# Altium footprint library rcl@1.PCBLIB: 487 footprints (part 23 of 31)
Each footprint in its own frame and in the unit in brackets; x right, y up, seen from the top. Pads: shape width x height; smd on the part's side, far side on the other; paste and mask are expansions set on the pad; w line width, h text height; cw(c..) or ccw(c..) is an arc to the next point about the centre after c.
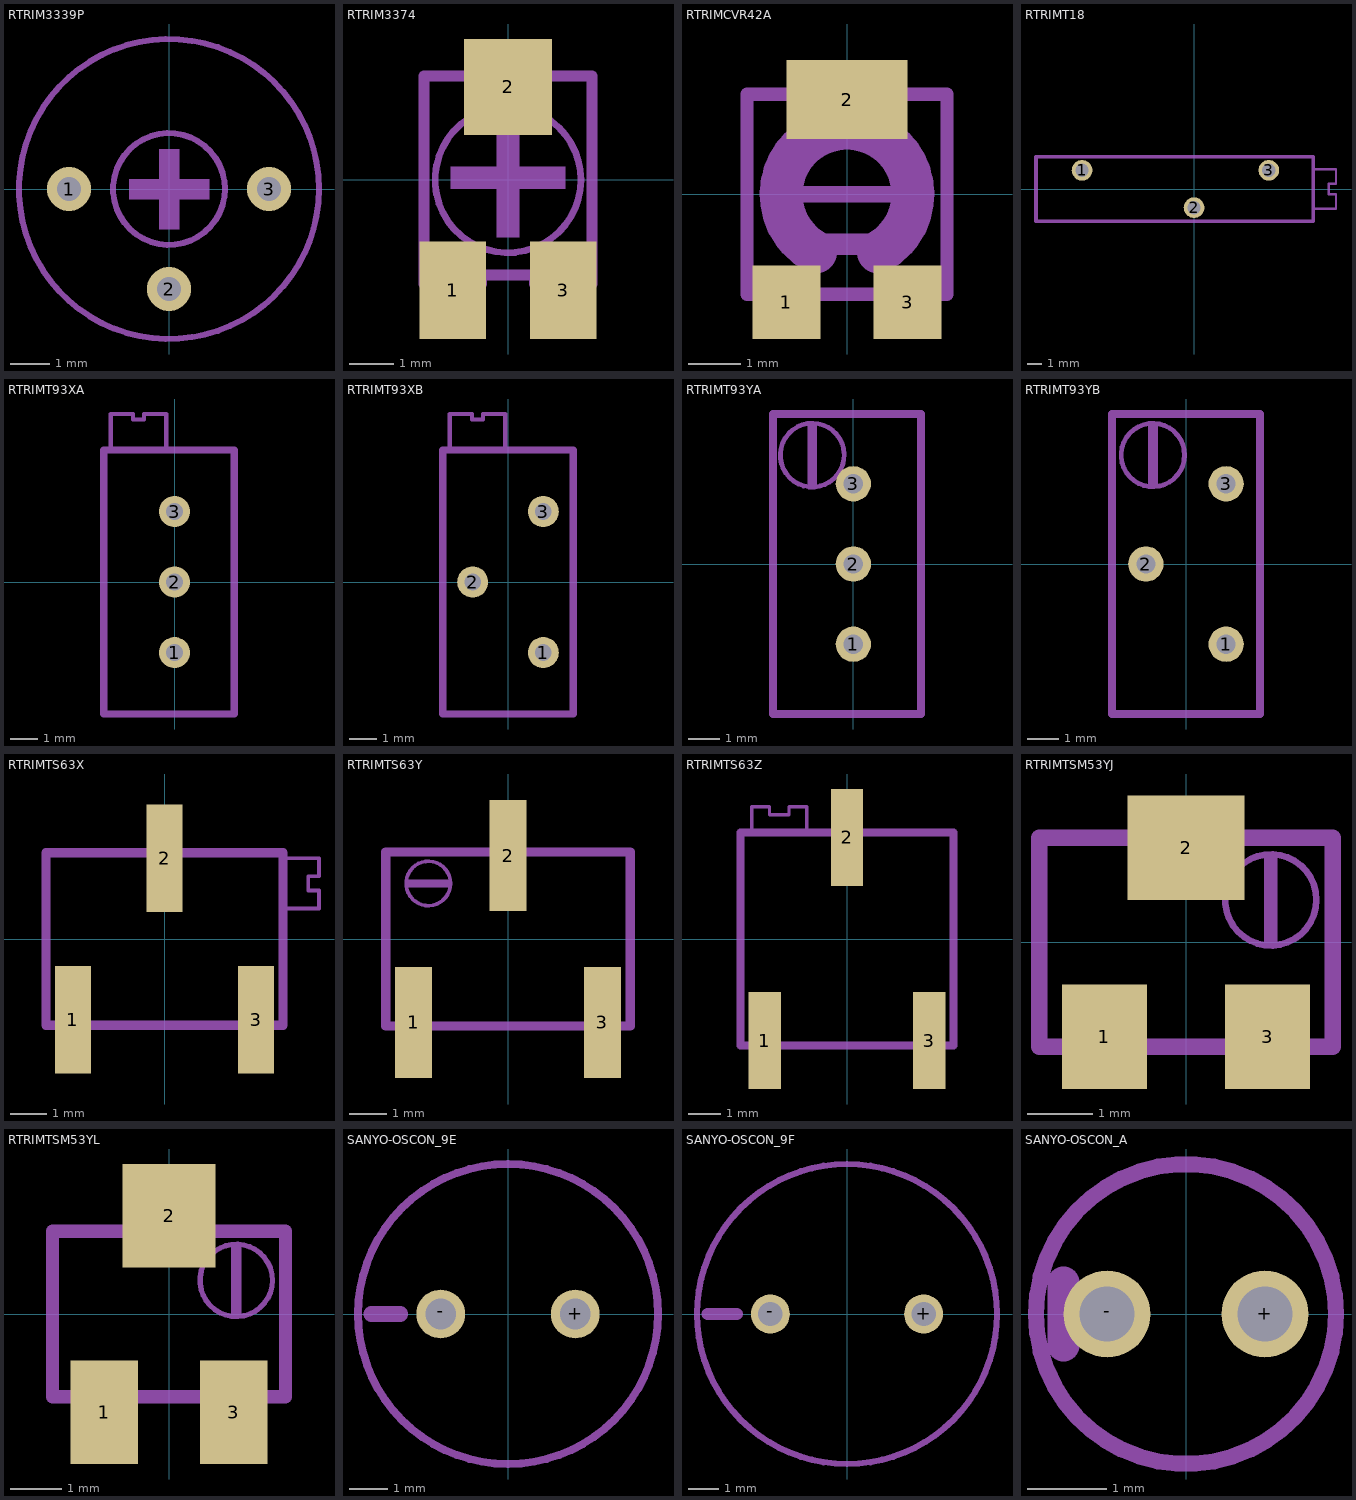
[diagram p22: the footprints below, top view; thin cyan lines are the x and y axes]

## RTRIM3339P [mil]
pads (3):
  round 44 hole 24: 1(-100,0) 2(0,-100) 3(100,0)
tPlace:
  circle w6: c0,0 r150
  circle w6: c0,0 r55.9
  region: -40,-10 -40,10 40,10 40,-10
  region: -10,-40 -10,40 10,40 10,-40

## RTRIM3374 [mil]
pads (3):
  rect 59.06x86.61 smd: 1(-49.21,-98.43) 3(49.21,-98.43)
  rect 77.95x85.43 smd: 2(0,82.68)
tDocu:
  circle w6: c0,0 r64.96
  region: -9.84,-51.18 -9.84,51.18 9.84,51.18 9.84,-51.18
  region: -51.18,-7.87 -51.18,11.81 51.18,11.81 51.18,-7.87
  lines w10: -74.8,-92.52 -23.62,-92.52 -23.62,-84.65 23.62,-84.65 23.62,-92.52 74.8,-92.52 74.8,92.52 -74.8,92.52 -74.8,-92.52
tPlace:
  lines w10: -74.8,-45.28 -74.8,92.52 -47.24,92.52 ; -9.84,-84.65 9.84,-84.65 ; 47.24,92.52 74.8,92.52 74.8,-45.28

## RTRIMCVR42A [mil]
pads (3):
  rect 51.18x55.12 smd: 1(-45.28,-80.71) 3(45.28,-80.71)
  rect 90.55x59.06 smd: 2(0,70.87)
tDocu:
  region: -25.59,-45.28 -25.59,-29.53 25.59,-29.53 25.59,-45.28
  lines w10: -74.8,-74.8 -74.8,74.8 74.8,74.8 74.8,-74.8 -74.8,-74.8
  lines w32: -23.62,-43.31 cw(c0,-0.01) 23.62,-43.31
tPlace:
  region: -41.34,-5.91 -41.34,5.91 41.34,5.91 41.34,-5.91
  lines w10: -74.8,-45.28 -74.8,74.8 -53.15,74.8 ; 53.15,74.8 74.8,74.8 74.8,-45.28

## RTRIMT18 [mil]
pads (3):
  round 55.43 hole 35.43: 1(-300,50) 2(0,-50) 3(200,50)
tPlace:
  lines w6: 322.83,-53.15 379.92,-53.15 379.92,-13.78 360.24,-13.78 360.24,13.78 379.92,13.78 379.92,53.15 322.83,53.15
  lines w10: -423.23,-86.61 -423.23,86.61 318.9,86.61 318.9,-86.61 -423.23,-86.61

## RTRIMT93XA [mil]
pads (3):
  round 44 hole 24: 1(0,-100) 2(0,0) 3(0,100)
tPlace:
  lines w6: -90.55,192.91 -90.55,238.19 -59.06,238.19 -59.06,230.32 -43.31,230.32 -43.31,238.19 -11.81,238.19 -11.81,192.91
  lines w10: -100.39,-187.01 -100.39,187.01 84.65,187.01 84.65,-187.01 -100.39,-187.01

## RTRIMT93XB [mil]
pads (3):
  round 44 hole 24: 1(50,-100) 2(-50,0) 3(50,100)
tPlace:
  lines w6: -82.68,192.91 -82.68,238.19 -51.18,238.19 -51.18,230.32 -35.43,230.32 -35.43,238.19 -3.94,238.19 -3.94,192.91
  lines w10: -92.52,-187.01 -92.52,187.01 92.52,187.01 92.52,-187.01 -92.52,-187.01

## RTRIMT93YA [mil]
pads (3):
  round 44 hole 24: 1(0,-100) 2(0,0) 3(0,100)
tDocu:
  lines w6: -29.53,102.36 ccw(c-51.18,135.76) -11.81,129.92
tPlace:
  region: -57.09,98.43 -57.09,173.23 -45.28,173.23 -45.28,98.43
  lines w6: -29.53,102.36 cw(c-51.18,135.76) -11.81,129.92
  lines w10: -100.39,-187.01 -100.39,187.01 84.65,187.01 84.65,-187.01 -100.39,-187.01

## RTRIMT93YB [mil]
pads (3):
  round 44 hole 24: 1(50,-100) 2(-50,0) 3(50,100)
tPlace:
  circle w6: c-41.34,135.83 r39.56
  region: -47.24,98.43 -47.24,173.23 -35.43,173.23 -35.43,98.43
  lines w10: -92.52,-187.01 -92.52,187.01 92.52,187.01 92.52,-187.01 -92.52,-187.01

## RTRIMTS63X [mm]
pads (3):
  rect 1x3 smd: 1(-2.55,-2.25) 2(0,2.25) 3(2.55,-2.25)
tDocu:
  region: -0.25,2.5 -0.25,3.35 0.25,3.35 0.25,2.5
  region: 2.3,-3.35 2.3,-2.5 2.8,-2.5 2.8,-3.35
  region: -2.8,-3.35 -2.8,-2.5 -2.3,-2.5 -2.3,-3.35
  lines w0.254: -3.3,-2.4 -3.3,2.4 3.3,2.4 3.3,-2.4 -3.3,-2.4
tPlace:
  lines w0.102: 3.4,0.85 4.3,0.85 4.3,1.35 4,1.35 4,1.75 4.3,1.75 4.3,2.25 3.4,2.25
  lines w0.254: -3.3,-2.4 -3.3,2.4 -0.8,2.4 ; -1.75,-2.4 1.75,-2.4 ; 0.8,2.4 3.3,2.4 3.3,-2.4

## RTRIMTS63Y [mm]
pads (3):
  rect 1x3 smd: 1(-2.55,-2.25) 2(0,2.25) 3(2.55,-2.25)
tDocu:
  region: -0.3,2.45 -0.3,3 0.3,3 0.3,2.45
  region: -2.85,-3 -2.85,-2.45 -2.25,-2.45 -2.25,-3
  region: 2.25,-3 2.25,-2.45 2.85,-2.45 2.85,-3
  lines w0.254: -3.3,-2.35 -3.3,2.35 3.3,2.35 3.3,-2.35 -3.3,-2.35
tPlace:
  circle w0.102: c-2.15,1.5 r0.6
  region: -2.7,1.4 -2.7,1.6 -1.6,1.6 -1.6,1.4
  lines w0.254: -3.3,-2.35 -3.3,2.35 -0.75,2.35 ; -1.75,-2.35 1.75,-2.35 ; 0.75,2.35 3.3,2.35 3.3,-2.35

## RTRIMTS63Z [mm]
pads (3):
  rect 1x3 smd: 1(-2.55,-3.15) 2(0,3.15) 3(2.55,-3.15)
tDocu:
  region: -0.3,3.4 -0.3,4.4 0.3,4.4 0.3,3.4
  region: -2.85,-4.4 -2.85,-3.4 -2.25,-3.4 -2.25,-4.4
  region: 2.25,-4.4 2.25,-3.4 2.85,-3.4 2.85,-4.4
  lines w0.254: -3.3,-3.3 -3.3,3.3 3.3,3.3 3.3,-3.3 -3.3,-3.3
tPlace:
  lines w0.102: -2.95,3.45 -2.95,4.1 -2.4,4.1 -2.4,3.85 -1.8,3.85 -1.8,4.1 -1.25,4.1 -1.25,3.4
  lines w0.254: -3.3,-3.3 -3.3,3.3 -0.75,3.3 ; -1.75,-3.3 1.75,-3.3 ; 0.75,3.3 3.3,3.3 3.3,-3.3

## RTRIMTSM53YJ [mil]
pads (3):
  rect 51.18x62.99 smd: 1(-49.21,-57.09) 3(49.21,-57.09)
  rect 70.87x62.99 smd: 2(0,57.09)
tDocu:
  circle w4: c51.18,25.59 r27.56
  region: -11.81,66.93 -11.81,74.8 11.81,74.8 11.81,66.93
  region: -62.99,-74.8 -62.99,-66.93 -39.37,-66.93 -39.37,-74.8
  region: 37.4,-74.8 37.4,-66.93 61.02,-66.93 61.02,-74.8
  lines w10: -88.58,-62.99 -88.58,62.99 88.58,62.99 88.58,-62.99 -88.58,-62.99
tPlace:
  region: 47.24,0 47.24,51.18 55.12,51.18 55.12,0
  lines w10: -88.58,-62.99 -88.58,62.99 -45.28,62.99 ; -15.75,-62.99 15.75,-62.99 ; 45.28,62.99 88.58,62.99 88.58,-62.99

## RTRIMTSM53YL [mm]
pads (3):
  rect 1.3x2 smd: 1(-1.25,-1.9) 3(1.25,-1.9)
  rect 1.8x2 smd: 2(0,1.9)
tDocu:
  circle w0.102: c1.3,0.65 r0.7
  region: -0.3,1.7 -0.3,2.55 0.3,2.55 0.3,1.7
  region: -1.55,-2.55 -1.55,-1.7 -0.95,-1.7 -0.95,-2.55
  region: 0.95,-2.55 0.95,-1.7 1.55,-1.7 1.55,-2.55
  lines w0.254: -2.25,-1.6 -2.25,1.6 2.25,1.6 2.25,-1.6 -2.25,-1.6
tPlace:
  region: 1.2,0 1.2,1.3 1.4,1.3 1.4,0
  lines w0.254: -2.25,-1.6 -2.25,1.6 -1.15,1.6 ; -0.35,-1.6 0.35,-1.6 ; 1.15,1.6 2.25,1.6 2.25,-1.6

## SANYO-OSCON_9E [mil]
pads (2):
  round 50 hole 31.5: +(68.9,0) -(-68.9,0)
tPlace:
  circle w8: c0,0 r153.54
  lines w16: -139.76,0 -110.24,0

## SANYO-OSCON_9F [mil]
pads (2):
  round 50 hole 31.5: +(98.43,0) -(-98.43,0)
tPlace:
  circle w8: c0,0 r192.91
  lines w16: -179.13,0 -141.73,0

## SANYO-OSCON_A [mm]
pads (2):
  round 1.1 hole 0.7: +(1,0) -(-1,0)
tDocu:
  lines w0.406: -1.55,-0.4 -1.55,0.4
tPlace:
  circle w0.203: c0,0 r1.9